# Altium integrated library 晶振12M_C258939.IntLib: 1 symbol
Pins are listed as number, name and electrical type; pins without a type are passive.

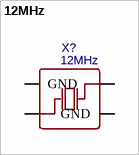
[diagram p0: symbol 12MHz]

## 12MHz
designator X?
BOM_Manufacturer: ZheJiang East Crystal Elec; BOM_Manufacturer Part: M12000J134; nameAlias: Frequency; Contributor: LCSC; BOM_Supplier: LCSC; BOM_Supplier Part: C258939; BOM_JLCPCB Part Class: Extended Part; spicePre: X; spiceSymbolName: M12000J134
footprint OSC-SMD_4P-L3.2-W2.5-BL
pins: 1 OSC1, 2 GND, 3 OSC2, 4 GND